# EAGLE library part RJ45 (library LEDscape)
CORCOM Modular RJ Jacks No Shield Source: www.tycoelectronics.com .. ENG_DS_1654001_1099_RJ_L_0507.pdf
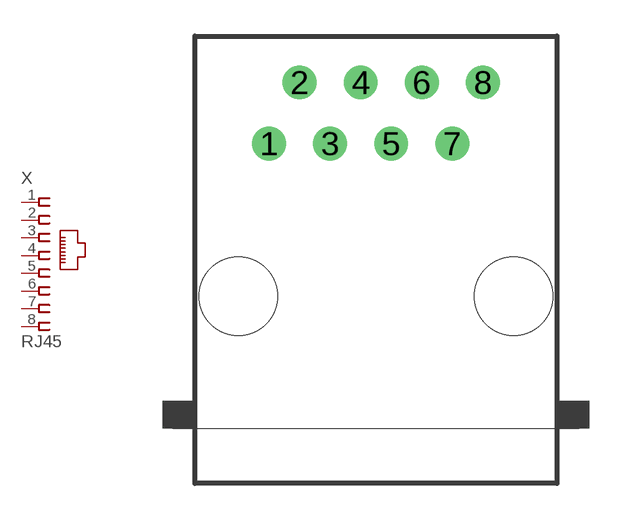
[diagram p2: symbol with the pads of RJ45-NO-SHIELD; footprint RJ45-NO-SHIELD]

Designator prefix X

## RJ45-6L-B (MPN: RJ45-6L-B; OC_FARNELL: unknown; OC_NEWARK: 16R6090), RJ45-6L-S (MPN: RJ45-6L-S; OC_FARNELL: unknown; OC_NEWARK: 16R6091), RJ45-6X (MPN: RJ45-6X; OC_FARNELL: unknown; OC_NEWARK: 01P1604), RJ45-8L-B (MF: TYCO ELECTRONICS; MPN: RJ45-8L-B; OC_FARNELL: 1279843; OC_NEWARK: 52K4445), RJ45-8L-S (MF: TYCO ELECTRONICS; MPN: RJ45-8L-S; OC_FARNELL: unknown; OC_NEWARK: 80K9067), RJ45-8X (MPN: RJ45-8X; OC_FARNELL: unknown; OC_NEWARK: 16R6101)  [RJ45-NO-SHIELD]
1  1  pas
2  2  pas
3  3  pas
4  4  pas
5  5  pas
6  6  pas
7  7  pas
8  8  pas

## Footprint RJ45-NO-SHIELD (pad centres in mm)
RJ45 Low Profile No Shield For all RJ45 N and Z Series Models Source: www.tycoelectronics.com .. ENG_DS_1654001_1099_RJ_L_0507.pdf
drill 0.9 pad 1.4: 1 -4.445,6.35; 2 -3.175,8.89; 3 -1.905,6.35; 4 -0.635,8.89; 5 0.635,6.35; 6 1.905,8.89; 7 3.175,6.35; 8 4.445,8.89
hole 3.251 at -5.715,0
hole 3.251 at 5.715,0